# EAGLE library part FXCORE_MODULE (library Electric-Canary_FXCore-Module)
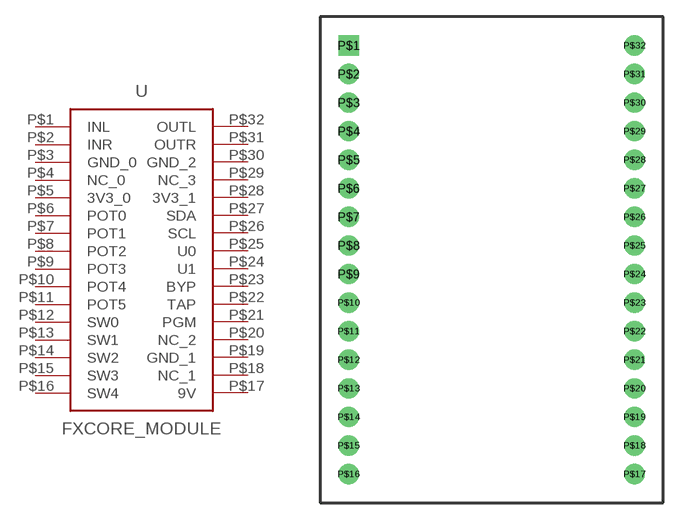
[diagram p0: symbol with the pads of FXCORE_MODULE; footprint FXCORE_MODULE]

Designator prefix -

## FXCORE_MODULE  [FXCORE_MODULE]
P$1  INL
P$2  INR
P$3  GND_0
P$4  NC_0
P$5  3V3_0
P$6  POT0
P$7  POT1
P$8  POT2
P$9  POT3
P$10  POT4
P$11  POT5
P$12  SW0
P$13  SW1
P$14  SW2
P$15  SW3
P$16  SW4
P$17  9V
P$18  NC_1
P$19  GND_1
P$20  NC_2
P$21  PGM
P$22  TAP
P$23  BYP
P$24  U1
P$25  U0
P$26  SCL
P$27  SDA
P$28  3V3_1
P$29  NC_3
P$30  GND_2
P$31  OUTR
P$32  OUTL

## Footprint FXCORE_MODULE (pad centres in mm)
drill 1.05 pad 1.8 square: P$1 0,0
drill 1.05 pad 1.8: P$2 0,-2.54; P$3 0,-5.08; P$4 0,-7.62; P$5 0,-10.16; P$6 0,-12.7; P$7 0,-15.24; P$8 0,-17.78; P$9 0,-20.32; P$10 0,-22.86; P$11 0,-25.4; P$12 0,-27.94; P$13 0,-30.48; P$14 0,-33.02; P$15 0,-35.56; P$16 0,-38.1; P$17 25.4,-38.1; P$18 25.4,-35.56; P$19 25.4,-33.02; P$20 25.4,-30.48; P$21 25.4,-27.94; P$22 25.4,-25.4; P$23 25.4,-22.86; P$24 25.4,-20.32; P$25 25.4,-17.78; P$26 25.4,-15.24; P$27 25.4,-12.7; P$28 25.4,-10.16; P$29 25.4,-7.62; P$30 25.4,-5.08; P$31 25.4,-2.54; P$32 25.4,0